# Altium integrated library SQCAEM200JATWE.IntLib: 1 symbol
Pins are listed as number, name and electrical type; pins without a type are passive.

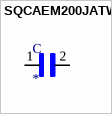
[diagram p0: symbol SQCAEM200JATWE]

## SQCAEM200JATWE
designator C
CAP CER 20PF 150V 0505; MF: AVX; MP: SQCAEM200JATWE; Package: 1414 AVX; Value: *; Availability: Unavailable; Price: None; SnapEDA_Link: https://www.snapeda.com/parts/SQCAEM200JATWE/AVX/view-part/1673362/?ref=snap
footprint CAPC1414X145N
pins: 1, 2